# Altium footprint library investigator_oring.PcbLib: 9 footprints
Each footprint in its own frame and in the unit in brackets; x right, y up, seen from the top. Pads: shape width x height; smd on the part's side, far side on the other; paste and mask are expansions set on the pad; w line width, h text height; cw(c..) or ccw(c..) is an arc to the next point about the centre after c.
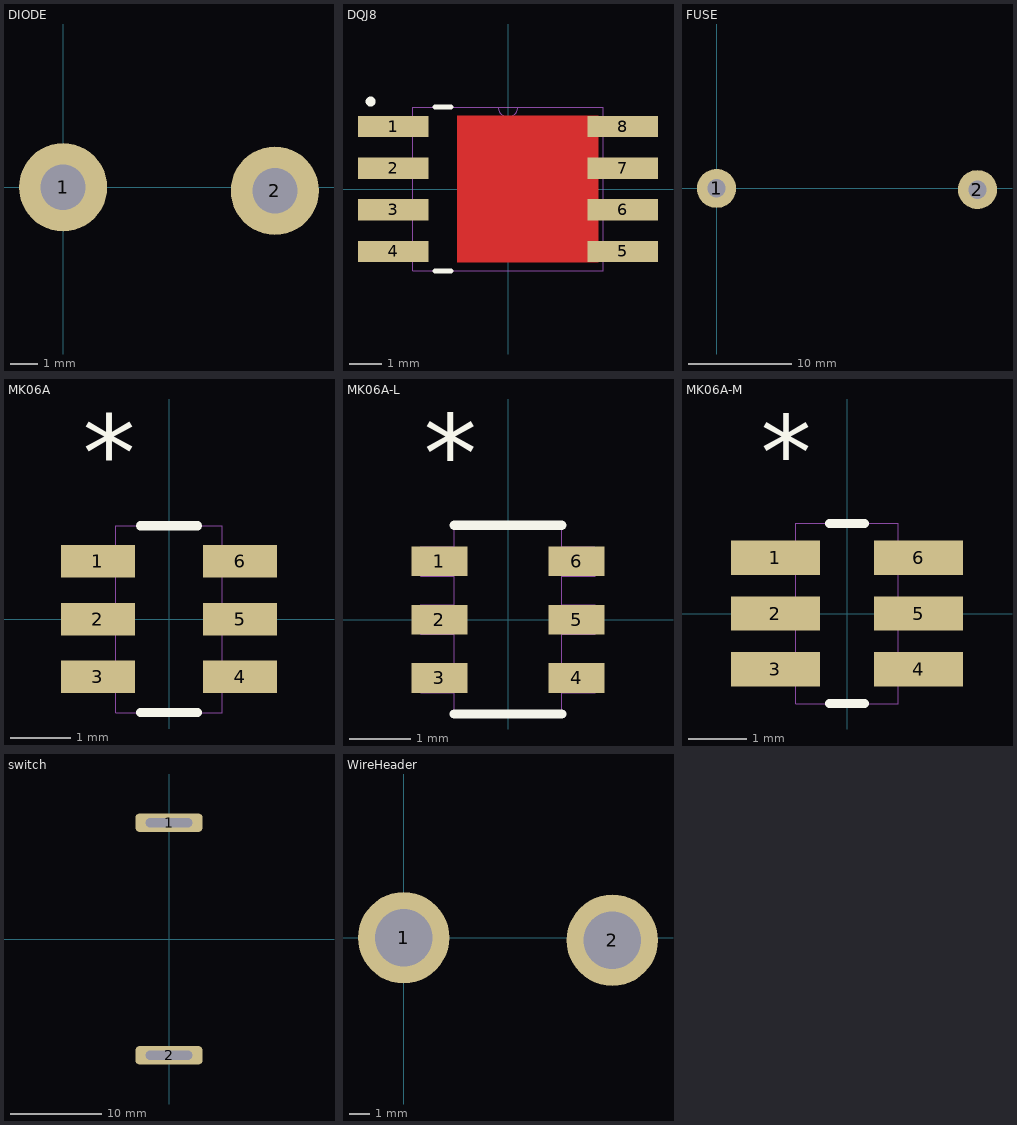
[diagram p0: the footprints below, top view; thin cyan lines are the x and y axes]

## DIODE [mil]
pads (2):
  round 125 hole 64: 1(0,0) 2(300,-5)

## DQJ8 [mm]
pads (8):
  rect 2.154x0.65 smd paste-0.1: 1(-3.497,1.905) 2(-3.497,0.635) 3(-3.497,-0.635) 4(-3.497,-1.905) 5(3.497,-1.905) 6(3.497,-0.635) 7(3.497,0.635) 8(3.497,1.905)
Top Layer:
  region: 2.745,0 2.745,-2.23 -1.545,-2.23 -1.545,0
  region: 2.745,0 2.745,2.23 -1.545,2.23 -1.545,0
Top Overlay:
  circle w0.152: c-4.191,2.667 r0.076
  lines w0.152: -2.226,-2.5 -1.74,-2.5 ; -2.226,2.5 -1.74,2.5
Top Paste:
  region: -0.18,-1.88 -0.18,-0.31 -1.415,-0.31 -1.415,-1.88
  region: -0.18,1.88 -0.18,0.31 -1.415,0.31 -1.415,1.88
  region: 0.32,1.88 0.32,0.31 1.905,0.31 1.905,1.88
  region: 0.32,-1.88 0.32,-0.31 1.905,-0.31 1.905,-1.88
Top Solder:
  region: 2.745,0 2.745,-2.23 -1.545,-2.23 -1.545,0
  region: 2.745,0 2.745,2.23 -1.545,2.23 -1.545,0
  region: 3.12,2.3 2.35,2.3 2.35,1.51 3.12,1.51
  region: 3.12,1.03 2.35,1.03 2.35,0.24 3.12,0.24
  region: 3.12,-0.24 2.35,-0.24 2.35,-1.03 3.12,-1.03
  region: 3.12,-1.51 2.35,-1.51 2.35,-2.3 3.12,-2.3
  region: -2.35,-1.51 -3.12,-1.51 -3.12,-2.3 -2.35,-2.3
  region: -2.35,-0.24 -3.12,-0.24 -3.12,-1.03 -2.35,-1.03
  region: -2.35,1.03 -3.12,1.03 -3.12,0.24 -2.35,0.24
  region: -2.35,2.3 -3.12,2.3 -3.12,1.51 -2.35,1.51
Mechanical 1:
  circle w0: c-4.091,1.905 r0.076
  lines w0: -0.305,2.5 ccw(c0,2.5) 0.305,2.5 ; -2.9,-2.5 -2.9,2.5 2.9,2.5 2.9,-2.5 -2.9,-2.5

## FUSE [mil]
pads (2):
  round 150 hole 70: 1(0,0) 2(1000,-5)

## MK06A [mil]
pads (6):
  rect 48x21 smd: 1(-46,37.4) 2(-46,0) 3(-46,-37.4) 4(46,-37.4) 5(46,0) 6(46,37.4)
Top Overlay:
  lines w6: -18.41,-60.5 18.41,-60.5 ; -18.41,60.5 18.41,60.5
  text "*" at -56,82.9 h50
Mechanical 1:
  lines w0: -56,-46.9 -56,-27.9 -34.5,-27.9 -34.5,-46.9 -56,-46.9 ; -56,-9.5 -56,9.5 -34.5,9.5 -34.5,-9.5 -56,-9.5 ; -56,27.9 -56,46.9 -34.5,46.9 -34.5,27.9 -56,27.9 ; -34.5,-60.5 34.5,-60.5 34.5,60.5 -34.5,60.5 -34.5,-60.5 ; 34.5,-46.9 34.5,-27.9 56,-27.9 56,-46.9 34.5,-46.9 ; 34.5,-9.5 34.5,9.5 56,9.5 56,-9.5 34.5,-9.5 ; 34.5,27.9 34.5,46.9 56,46.9 56,27.9 34.5,27.9

## MK06A-L [mil]
pads (6):
  rect 36x19 smd: 1(-44,37.4) 2(-44,0) 3(-44,-37.4) 4(44,-37.4) 5(44,0) 6(44,37.4)
Top Overlay:
  lines w6: -34.5,-60.5 34.5,-60.5 ; -34.5,60.5 34.5,60.5
  text "*" at -54,81.9 h50
Mechanical 1:
  lines w0: -56,-46.9 -56,-27.9 -34.5,-27.9 -34.5,-46.9 -56,-46.9 ; -56,-9.5 -56,9.5 -34.5,9.5 -34.5,-9.5 -56,-9.5 ; -56,27.9 -56,46.9 -34.5,46.9 -34.5,27.9 -56,27.9 ; -34.5,-60.5 34.5,-60.5 34.5,60.5 -34.5,60.5 -34.5,-60.5 ; 34.5,-46.9 34.5,-27.9 56,-27.9 56,-46.9 34.5,-46.9 ; 34.5,-9.5 34.5,9.5 56,9.5 56,-9.5 34.5,-9.5 ; 34.5,27.9 34.5,46.9 56,46.9 56,27.9 34.5,27.9

## MK06A-M [mil]
pads (6):
  rect 60x23 smd: 1(-48,37.4) 2(-48,0) 3(-48,-37.4) 4(48,-37.4) 5(48,0) 6(48,37.4)
Top Overlay:
  lines w6: -11.91,-60.5 11.91,-60.5 ; -11.91,60.5 11.91,60.5
  text "*" at -58,83.9 h50
Mechanical 1:
  lines w0: -56,-46.9 -56,-27.9 -34.5,-27.9 -34.5,-46.9 -56,-46.9 ; -56,-9.5 -56,9.5 -34.5,9.5 -34.5,-9.5 -56,-9.5 ; -56,27.9 -56,46.9 -34.5,46.9 -34.5,27.9 -56,27.9 ; -34.5,-60.5 34.5,-60.5 34.5,60.5 -34.5,60.5 -34.5,-60.5 ; 34.5,-46.9 34.5,-27.9 56,-27.9 56,-46.9 34.5,-46.9 ; 34.5,-9.5 34.5,9.5 56,9.5 56,-9.5 34.5,-9.5 ; 34.5,27.9 34.5,46.9 56,46.9 56,27.9 34.5,27.9

## PCBComponent_1 [mil]

## switch [mil]
pads (2):
  rrect50% 290x80 hole 40 slot 200 at 0 deg: 1(0,500) 2(0,-500)

## WireHeader [mil]
pads (2):
  round 175 hole 110: 1(0,0) 2(400,-5)